# Altium footprint library PcbLib1.PcbLib: 4 footprints
Each footprint in its own frame and in the unit in brackets; x right, y up, seen from the top. Pads: shape width x height; smd on the part's side, far side on the other; paste and mask are expansions set on the pad; w line width, h text height; cw(c..) or ccw(c..) is an arc to the next point about the centre after c.
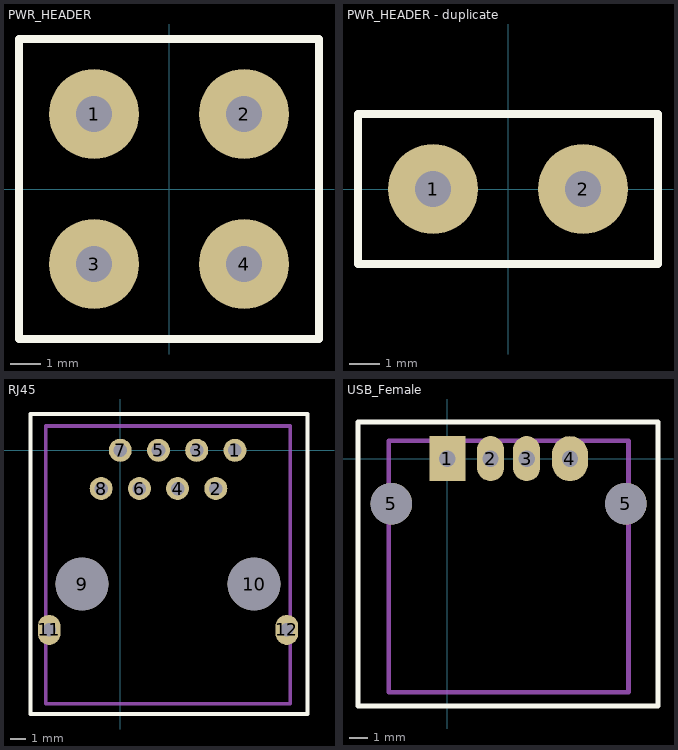
[diagram p0: the footprints below, top view; thin cyan lines are the x and y axes]

## PWR_HEADER [mm] "4 port power header"
height 10
pads (4):
  round 3 hole 1.2: 1(-2.5,2.5) 2(2.5,2.5) 3(-2.5,-2.5) 4(2.5,-2.5)
Top Overlay:
  lines w0.254: -5,-5 -5,5 5,5 5,-5 -5,-5

## PWR_HEADER - duplicate [mm] "2 port power header"
height 10
pads (2):
  round 3 hole 1.2: 1(-2.5,0) 2(2.5,0)
Top Overlay:
  lines w0.254: -5,-2.5 5,-2.5 5,2.5 -5,2.5 -5,-2.5

## RJ45 [mm]
height 13.5
pads (12):
  round 1.524 hole 0.9: 1(7.62,0) 2(6.35,-2.54) 3(5.08,0) 4(3.81,-2.54) 5(2.54,0) 6(1.27,-2.54) 7(0,0) 8(-1.27,-2.54)
  round 3.5 hole 3.5: 9(-2.54,-8.89) 10(8.89,-8.89)
  oval 1.5x2 hole 0.9: 11(-4.725,-11.94) 12(11.075,-11.94)
Top Overlay:
  lines w0.254: -5.969,-17.526 -5.969,2.413 12.446,2.413 12.446,-17.526 -5.969,-17.526
Mechanical 13:
  lines w0.254: -4.953,1.61 11.303,1.61 11.3,-16.84 -4.95,-16.84 -4.953,1.61
  text ".Designator" at 0,0 h1.52

## USB_Female [mm]
height 5.2
pads (6):
  rect 2x2.5 hole 0.9: 1(0,0)
  oval 1.5x2.5 hole 0.9: 2(2.4,0) 3(4.4,0)
  oval 2x2.5 hole 0.9: 4(6.8,0)
  round 2.3 hole 2.3: 5(-3.1,-2.5) 5(9.9,-2.5)
Top Overlay:
  lines w0.254: -4.953,-13.716 -4.953,2.032 11.684,2.032 11.684,-13.716 -4.953,-13.716
Mechanical 13:
  lines w0.254: -3.25,-12.954 10.05,-12.954 10.05,1 -3.25,1 -3.25,-12.954
  text ".Designator" at -0.127,-0.127 h1.52